# EAGLE library part SPARKFUN-CONNECTORS_503182-1853 (library masterboard_b12)
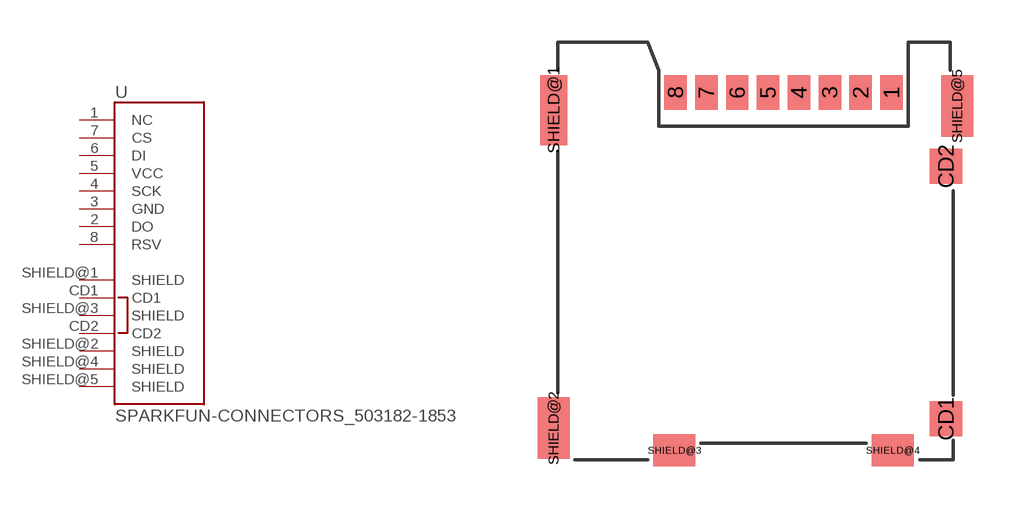
[diagram p3: symbol with the pads of SPARKFUN-CONNECTORS_503182-1853; footprint SPARKFUN-CONNECTORS_503182-1853]

Designator prefix -

## SPARKFUN-CONNECTORS_503182-1853  [SPARKFUN-CONNECTORS_503182-1853]
1  NC
2  DO
3  GND
4  SCK
5  VCC
6  DI
7  CS
8  RSV
CD1  CD1
CD2  CD2
SHIELD@1  SHIELD
SHIELD@2  SHIELD
SHIELD@3  SHIELD
SHIELD@4  SHIELD
SHIELD@5  SHIELD

## Footprint SPARKFUN-CONNECTORS_503182-1853 (pad centres in mm)
smd 0.8 x 1.24: 1 4.68,7.02; 2 3.58,7.02; 3 2.48,7.02; 4 1.38,7.02; 5 0.28,7.02; 6 -0.82,7.02; 7 -1.92,7.02; 8 -3.02,7.02
smd 1.16 x 1.25: CD1 6.62,-4.61; CD2 6.62,4.39
smd 0.95 x 2.5: SHIELD@1 -7.365,6.39
smd 1.15 x 2.2: SHIELD@2 -7.365,-4.94; SHIELD@5 7.025,6.54
smd 1.5 x 1.15: SHIELD@3 -3.06,-5.735; SHIELD@4 4.72,-5.735